# Altium schematic symbol library Mech.SchLib: 11 symbols
Pins are listed as number, name and electrical type; pins without a type are passive.

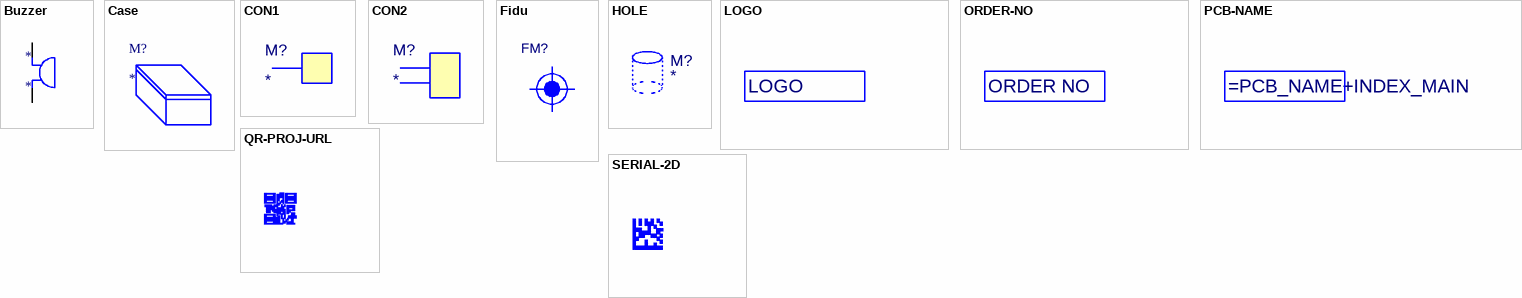
[diagram p0: symbols Buzzer to SERIAL-2D]

## Buzzer
designator *
pins: 1 +, 2 -

## Case
designator M?

## CON1
designator M?

## CON2
designator M?

## Fidu
designator FM?  (no BOM)
Fiducial

## HOLE
designator M?

## LOGO
designator M?
Logo

## ORDER-NO
designator M?
JLC order number
text: ORDER NO

## PCB-NAME
designator M?
PCB name

## QR-PROJ-URL
designator M?
QR Project URL

## SERIAL-2D
designator M?
Serial number